# Altium schematic symbol library micro-mc68000.SCHLIB: 23 symbols
Pins are listed as number, name and electrical type; pins without a type are passive.

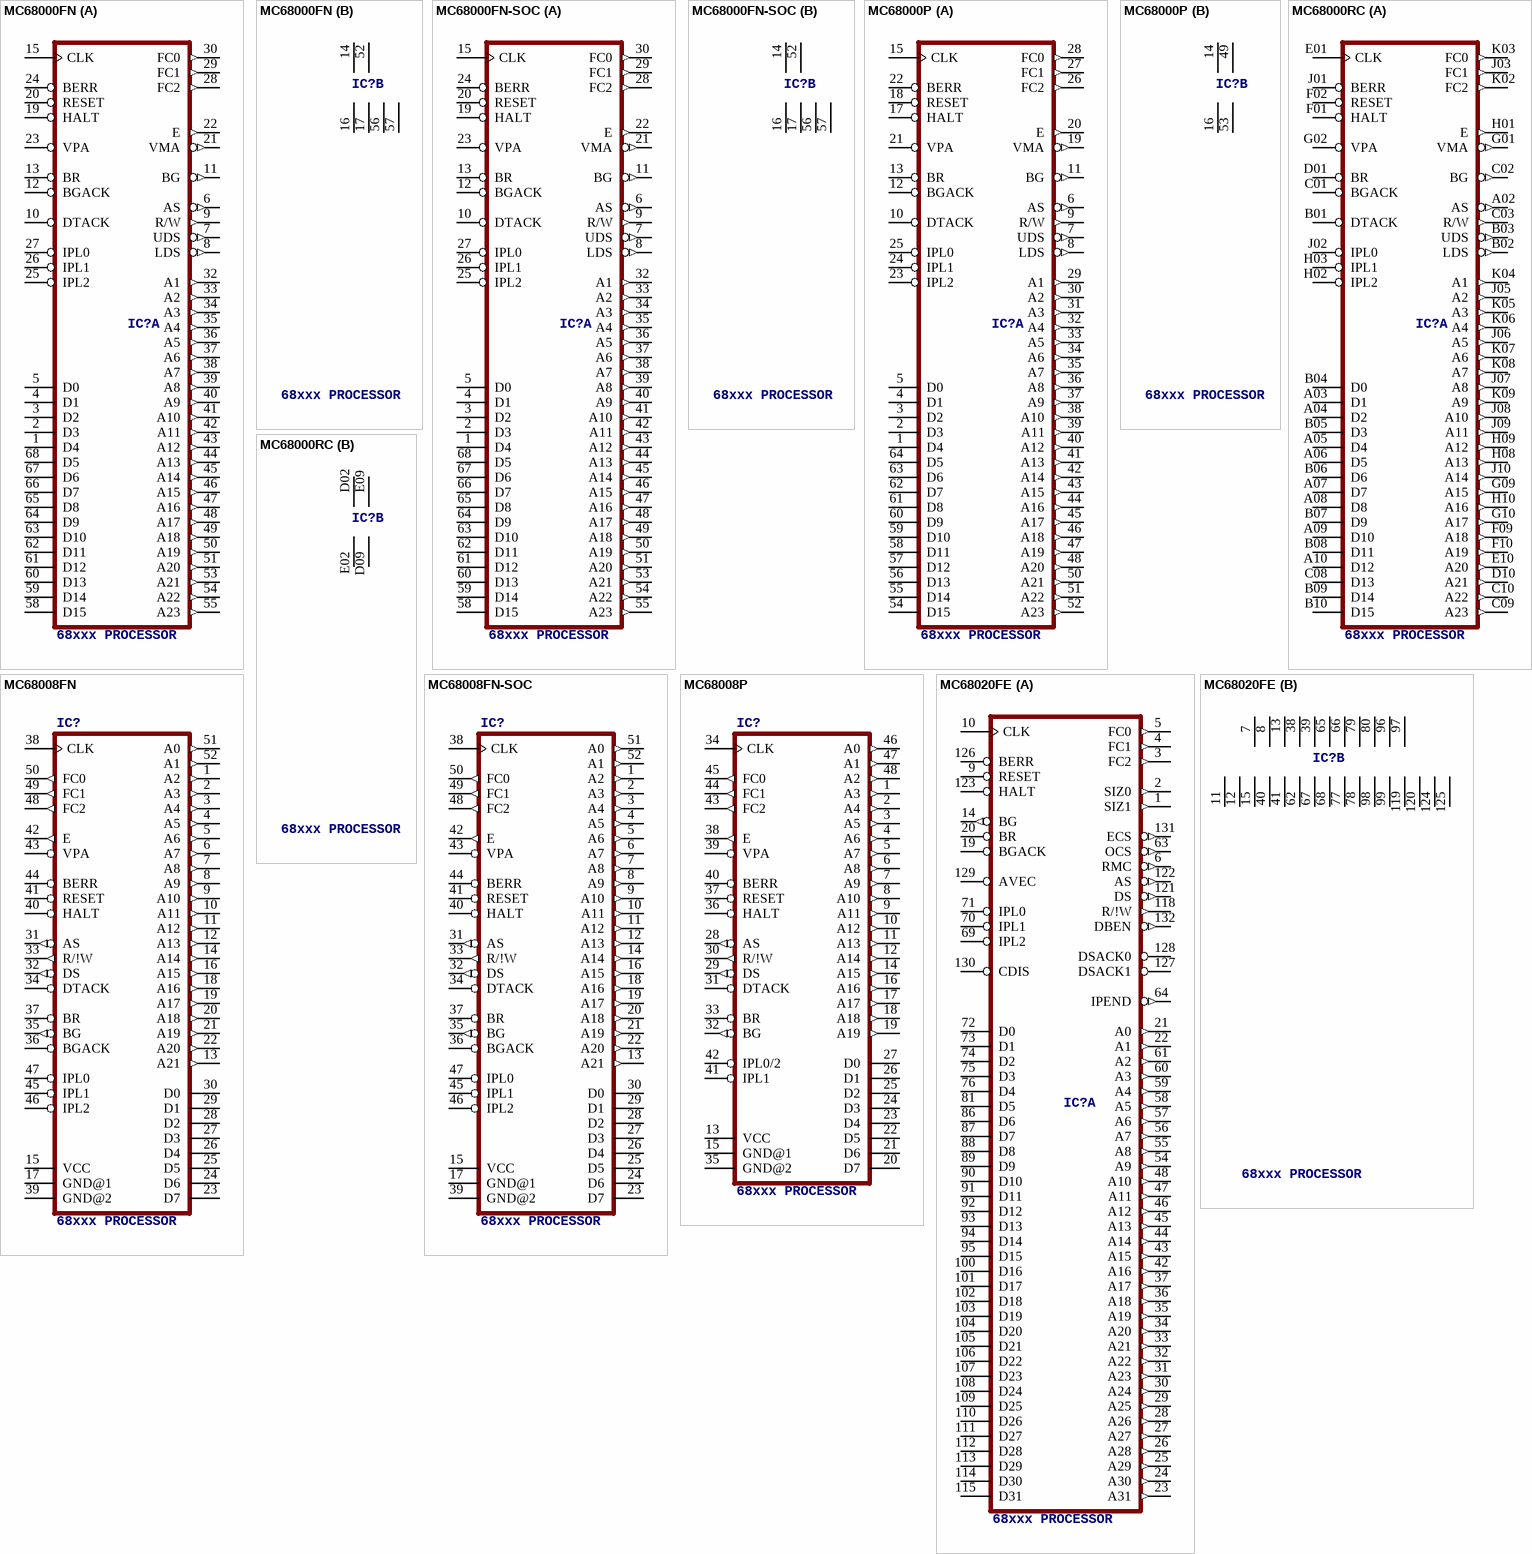
[diagram p0: symbols MC68000FN to MC68020FE]

## MC68000FN
designator IC?, comment 68xxx PROCESSOR
MPN: MC68HC000FN20; MF: MOTOROLA; OC_FARNELL: unknown; OC_NEWARK: 66F833
footprint PLCC68
part A pins: 1 D4, 2 D3, 3 D2, 4 D1, 5 D0, 6 AS (out), 7 UDS (out), 8 LDS (out), 9 R/W (out), 10 DTACK, 11 BG (out), 12 BGACK, 13 BR, 15 CLK, 19 HALT, 20 RESET, 21 VMA (out), 22 E (out), 23 VPA, 24 BERR, 25 IPL2, 26 IPL1, 27 IPL0, 28 FC2 (out), 29 FC1 (out), 30 FC0 (out), 32 A1 (out), 33 A2 (out), 34 A3 (out), 35 A4 (out), 36 A5 (out), 37 A6 (out), 38 A7 (out), 39 A8 (out), 40 A9 (out), 41 A10 (out), 42 A11 (out), 43 A12 (out), 44 A13 (out), 45 A14 (out), 46 A15 (out), 47 A16 (out), 48 A17 (out), 49 A18 (out), 50 A19 (out), 51 A20 (out), 53 A21 (out), 54 A22 (out), 55 A23 (out), 58 D15, 59 D14, 60 D13, 61 D12, 62 D11, 63 D10, 64 D9, 65 D8, 66 D7, 67 D6, 68 D5
part B pins: 14 VCC@1 (power), 16 GND@1 (power), 17 GND@2 (power), 52 VCC@2 (power), 56 GND@3 (power), 57 GND@4 (power)

## MC68000FN-SOC
designator IC?, comment 68xxx PROCESSOR
OC_FARNELL: unknown; OC_NEWARK: unknown
footprint PLCC68-S
part A pins: 1 D4, 2 D3, 3 D2, 4 D1, 5 D0, 6 AS (out), 7 UDS (out), 8 LDS (out), 9 R/W (out), 10 DTACK, 11 BG (out), 12 BGACK, 13 BR, 15 CLK, 19 HALT, 20 RESET, 21 VMA (out), 22 E (out), 23 VPA, 24 BERR, 25 IPL2, 26 IPL1, 27 IPL0, 28 FC2 (out), 29 FC1 (out), 30 FC0 (out), 32 A1 (out), 33 A2 (out), 34 A3 (out), 35 A4 (out), 36 A5 (out), 37 A6 (out), 38 A7 (out), 39 A8 (out), 40 A9 (out), 41 A10 (out), 42 A11 (out), 43 A12 (out), 44 A13 (out), 45 A14 (out), 46 A15 (out), 47 A16 (out), 48 A17 (out), 49 A18 (out), 50 A19 (out), 51 A20 (out), 53 A21 (out), 54 A22 (out), 55 A23 (out), 58 D15, 59 D14, 60 D13, 61 D12, 62 D11, 63 D10, 64 D9, 65 D8, 66 D7, 67 D6, 68 D5
part B pins: 14 VCC@1 (power), 16 GND@1 (power), 17 GND@2 (power), 52 VCC@2 (power), 56 GND@3 (power), 57 GND@4 (power)

## MC68000P
designator IC?, comment 68xxx PROCESSOR
OC_FARNELL: unknown; OC_NEWARK: unknown
footprint DIL64
part A pins: 1 D4, 2 D3, 3 D2, 4 D1, 5 D0, 6 AS (out), 7 UDS (out), 8 LDS (out), 9 R/W (out), 10 DTACK, 11 BG (out), 12 BGACK, 13 BR, 15 CLK, 17 HALT, 18 RESET, 19 VMA (out), 20 E (out), 21 VPA, 22 BERR, 23 IPL2, 24 IPL1, 25 IPL0, 26 FC2 (out), 27 FC1 (out), 28 FC0 (out), 29 A1 (out), 30 A2 (out), 31 A3 (out), 32 A4 (out), 33 A5 (out), 34 A6 (out), 35 A7 (out), 36 A8 (out), 37 A9 (out), 38 A10 (out), 39 A11 (out), 40 A12 (out), 41 A13 (out), 42 A14 (out), 43 A15 (out), 44 A16 (out), 45 A17 (out), 46 A18 (out), 47 A19 (out), 48 A20 (out), 50 A21 (out), 51 A22 (out), 52 A23 (out), 54 D15, 55 D14, 56 D13, 57 D12, 58 D11, 59 D10, 60 D9, 61 D8, 62 D7, 63 D6, 64 D5
part B pins: 14 VCC@1 (power), 16 GND@1 (power), 49 VCC@2 (power), 53 GND@2 (power)

## MC68000RC
designator IC?, comment 68xxx PROCESSOR
MPN: MC68HC000RC16; MF: MOTOROLA; OC_FARNELL: unknown; OC_NEWARK: 40K0242
footprint MPGA68
part A pins: A02 AS (out), A03 D1, A04 D2, A05 D4, A06 D5, A07 D7, A08 D8, A09 D10, A10 D12, B01 DTACK, B02 LDS (out), B03 UDS (out), B04 D0, B05 D3, B06 D6, B07 D9, B08 D11, B09 D14, B10 D15, C01 BGACK, C02 BG (out), C03 R/W (out), C08 D13, C09 A23 (out), C10 A22 (out), D01 BR, D10 A21 (out), E01 CLK, E10 A20 (out), F01 HALT, F02 RESET, F09 A18 (out), F10 A19 (out), G01 VMA (out), G02 VPA, G09 A15 (out), G10 A17 (out), H01 E (out), H02 IPL2, H03 IPL1, H08 A13 (out), H09 A12 (out), H10 A16 (out), J01 BERR, J02 IPL0, J03 FC1 (out), J05 A2 (out), J06 A5 (out), J07 A8 (out), J08 A10 (out), J09 A11 (out), J10 A14 (out), K02 FC2 (out), K03 FC0 (out), K04 A1 (out), K05 A3 (out), K06 A4 (out), K07 A6 (out), K08 A7 (out), K09 A9 (out)
part B pins: D02 VCC@1 (power), D09 GND@2 (power), E02 GND@1 (power), E09 VCC@2 (power)

## MC68008FN
designator IC?, comment 68xxx PROCESSOR
OC_FARNELL: unknown; OC_NEWARK: unknown
footprint PLCC52
pins: 1 A2 (out), 2 A3 (out), 3 A4 (out), 4 A5 (out), 5 A6 (out), 6 A7 (out), 7 A8 (out), 8 A9 (out), 9 A10 (out), 10 A11 (out), 11 A12 (out), 12 A13 (out), 13 A21 (out), 14 A14 (out), 15 VCC (power), 16 A15 (out), 17 GND@1 (power), 18 A16 (out), 19 A17 (out), 20 A18 (out), 21 A19 (out), 22 A20 (out), 23 D7, 24 D6, 25 D5, 26 D4, 27 D3, 28 D2, 29 D1, 30 D0, 31 AS (out), 32 DS (out), 33 R/!W (out), 34 DTACK, 35 BG (out), 36 BGACK, 37 BR, 38 CLK, 39 GND@2 (power), 40 HALT, 41 RESET, 42 E (out), 43 VPA, 44 BERR, 45 IPL1, 46 IPL2, 47 IPL0, 48 FC2 (out), 49 FC1 (out), 50 FC0 (out), 51 A0 (out), 52 A1 (out)

## MC68008FN-SOC
designator IC?, comment 68xxx PROCESSOR
OC_FARNELL: unknown; OC_NEWARK: unknown
footprint PLCC52-S
pins: 1 A2 (out), 2 A3 (out), 3 A4 (out), 4 A5 (out), 5 A6 (out), 6 A7 (out), 7 A8 (out), 8 A9 (out), 9 A10 (out), 10 A11 (out), 11 A12 (out), 12 A13 (out), 13 A21 (out), 14 A14 (out), 15 VCC (power), 16 A15 (out), 17 GND@1 (power), 18 A16 (out), 19 A17 (out), 20 A18 (out), 21 A19 (out), 22 A20 (out), 23 D7, 24 D6, 25 D5, 26 D4, 27 D3, 28 D2, 29 D1, 30 D0, 31 AS (out), 32 DS (out), 33 R/!W (out), 34 DTACK, 35 BG (out), 36 BGACK, 37 BR, 38 CLK, 39 GND@2 (power), 40 HALT, 41 RESET, 42 E (out), 43 VPA, 44 BERR, 45 IPL1, 46 IPL2, 47 IPL0, 48 FC2 (out), 49 FC1 (out), 50 FC0 (out), 51 A0 (out), 52 A1 (out)

## MC68008P
designator IC?, comment 68xxx PROCESSOR
OC_FARNELL: unknown; OC_NEWARK: unknown
footprint DIL48
pins: 1 A3 (out), 2 A4 (out), 3 A5 (out), 4 A6 (out), 5 A7 (out), 6 A8 (out), 7 A9 (out), 8 A10 (out), 9 A11 (out), 10 A12 (out), 11 A13 (out), 12 A14 (out), 13 VCC (power), 14 A15 (out), 15 GND@1 (power), 16 A16 (out), 17 A17 (out), 18 A18 (out), 19 A19 (out), 20 D7, 21 D6, 22 D5, 23 D4, 24 D3, 25 D2, 26 D1, 27 D0, 28 AS (out), 29 DS (out), 30 R/!W (out), 31 DTACK, 32 BG (out), 33 BR, 34 CLK, 35 GND@2 (power), 36 HALT, 37 RESET, 38 E (out), 39 VPA, 40 BERR, 41 IPL1, 42 IPL0/2, 43 FC2 (out), 44 FC1 (out), 45 FC0 (out), 46 A0 (out), 47 A1 (out), 48 A2 (out)

## MC68020FE
designator IC?, comment 68xxx PROCESSOR
MPN: MC68020FE33E; MF: MOTOROLA; OC_FARNELL: 1579774; OC_NEWARK: 75C2448
footprint MQFP132
part A pins: 1 SIZ1 (out), 2 SIZ0 (out), 3 FC2 (out), 4 FC1 (out), 5 FC0 (out), 6 RMC (out), 9 RESET, 10 CLK, 14 BG (out), 19 BGACK, 20 BR, 21 A0 (out), 22 A1 (out), 23 A31 (out), 24 A30 (out), 25 A29 (out), 26 A28 (out), 27 A27 (out), 28 A26 (out), 29 A25 (out), 30 A24 (out), 31 A23 (out), 32 A22 (out), 33 A21 (out), 34 A20 (out), 35 A19 (out), 36 A18 (out), 37 A17 (out), 42 A16 (out), 43 A15 (out), 44 A14 (out), 45 A13 (out), 46 A12 (out), 47 A11 (out), 48 A10 (out), 54 A9 (out), 55 A8 (out), 56 A7 (out), 57 A6 (out), 58 A5 (out), 59 A4 (out), 60 A3 (out), 61 A2 (out), 63 OCS (out), 64 IPEND (out), 69 IPL2, 70 IPL1, 71 IPL0, 72 D0, 73 D1, 74 D2, 75 D3, 76 D4, 81 D5, 86 D6, 87 D7, 88 D8, 89 D9, 90 D10, 91 D11, 92 D12, 93 D13, 94 D14, 95 D15, 100 D16, 101 D17, 102 D18, 103 D19, 104 D20, 105 D21, 106 D22, 107 D23, 108 D24, 109 D25, 110 D26, 111 D27, 112 D28, 113 D29, 114 D30, 115 D31, 118 R/!W (out), 121 DS (out), 122 AS (out), 123 HALT, 126 BERR, 127 DSACK1, 128 DSACK0, 129 AVEC, 130 CDIS, 131 ECS (out), 132 DBEN (out)
part B pins: 7 VDD@1 (power), 8 VDD@2 (power), 11 GND@1 (power), 12 GND@2 (power), 13 VDD@3 (power), 15 GND@3 (power), 38 VDD@4 (power), 39 VDD@5 (power), 40 GND@4 (power), 41 GND@5 (power), 62 GND@6 (power), 65 VDD@6 (power), 66 VDD@7 (power), 67 GND@7 (power), 68 GND@8 (power), 77 GND@9 (power), 78 GND@10 (power), 79 VDD@8 (power), 80 VDD@9 (power), 96 VDD@10 (power), 97 VDD@11 (power), 98 GND@11 (power), 99 GND@12 (power), 119 GND@13 (power), 120 GND@14 (power), 124 GND@15 (power), 125 GND@16 (power)

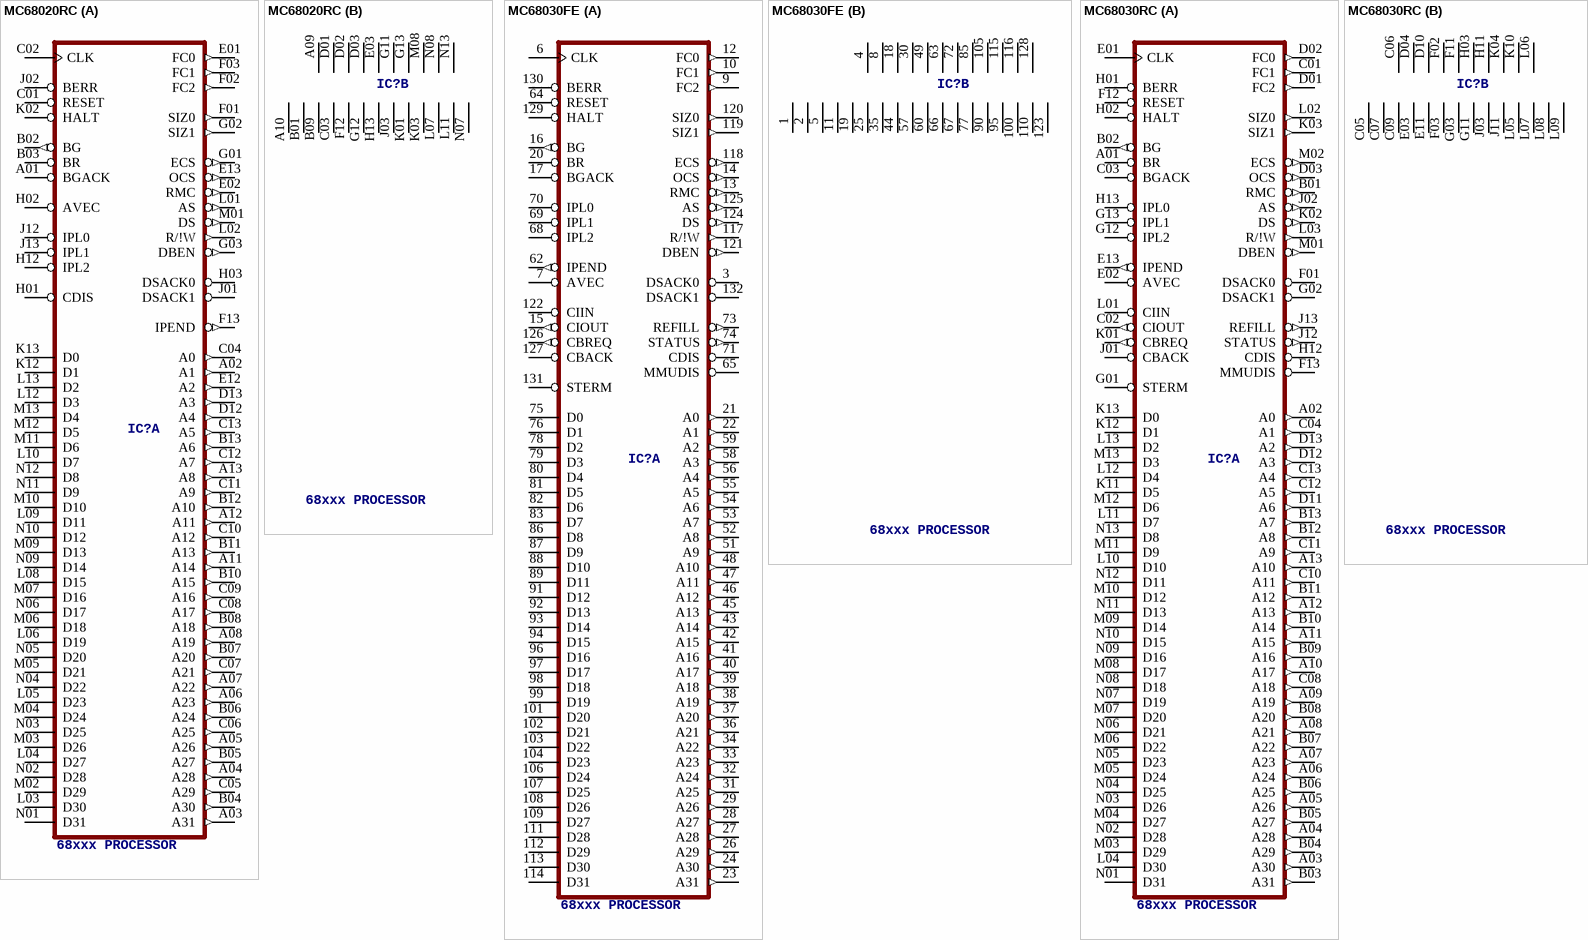
[diagram p1: symbols MC68020RC to MC68030RC]

## MC68020RC
designator IC?, comment 68xxx PROCESSOR
MPN: MC68020RC33E; MF: MOTOROLA; OC_FARNELL: 1579779; OC_NEWARK: 66F7091
footprint MPGA114
part A pins: A01 BGACK, A02 A1 (out), A03 A31 (out), A04 A28 (out), A05 A26 (out), A06 A23 (out), A07 A22 (out), A08 A19 (out), A11 A14 (out), A12 A11 (out), A13 A8 (out), B02 BG (out), B03 BR, B04 A30 (out), B05 A27 (out), B06 A24 (out), B07 A20 (out), B08 A18 (out), B10 A15 (out), B11 A13 (out), B12 A10 (out), B13 A6 (out), C01 RESET, C02 CLK, C04 A0 (out), C05 A29 (out), C06 A25 (out), C07 A21 (out), C08 A17 (out), C09 A16 (out), C10 A12 (out), C11 A9 (out), C12 A7 (out), C13 A5 (out), D12 A4 (out), D13 A3 (out), E01 FC0 (out), E02 RMC (out), E12 A2 (out), E13 OCS (out), F01 SIZ0 (out), F02 FC2 (out), F03 FC1 (out), F13 IPEND (out), G01 ECS (out), G02 SIZ1 (out), G03 DBEN (out), H01 CDIS, H02 AVEC, H03 DSACK0, H12 IPL2, J01 DSACK1, J02 BERR, J12 IPL0, J13 IPL1, K02 HALT, K12 D1, K13 D0, L01 AS (out), L02 R/!W (out), L03 D30, L04 D27, L05 D23, L06 D19, L08 D15, L09 D11, L10 D7, L12 D3, L13 D2, M01 DS (out), M02 D29, M03 D26, M04 D24, M05 D21, M06 D18, M07 D16, M09 D13, M10 D10, M11 D6, M12 D5, M13 D4, N01 D31, N02 D28, N03 D25, N04 D22, N05 D20, N06 D17, N09 D14, N10 D12, N11 D9, N12 D8
part B pins: A09 VCC@1 (power), A10 GND@1 (power), B01 GND@2 (power), B09 GND@3 (power), C03 GND@4 (power), D01 VCC@2 (power), D02 VCC@3 (power), D03 VCC@4 (power), E03 VCC@5 (power), F12 GND@5 (power), G11 VCC@6 (power), G12 GND@6 (power), G13 VCC@7 (power), H13 GND@7 (power), J03 GND@8 (power), K01 GND@9 (power), K03 GND@10 (power), L07 GND@11 (power), L11 GND@12 (power), M08 VCC@8 (power), N07 GND@13 (power), N08 VCC@9 (power), N13 VCC@10 (power)

## MC68030FE
designator IC?, comment 68xxx PROCESSOR
MPN: MC68030FE33C; MF: MOTOROLA; OC_FARNELL: unknown; OC_NEWARK: 52F3266
footprint MQFP132
part A pins: 3 DSACK0, 6 CLK, 7 AVEC, 9 FC2 (out), 10 FC1 (out), 12 FC0 (out), 13 RMC (out), 14 OCS (out), 15 CIOUT (out), 16 BG (out), 17 BGACK, 20 BR, 21 A0 (out), 22 A1 (out), 23 A31 (out), 24 A30 (out), 26 A29 (out), 27 A28 (out), 28 A27 (out), 29 A26 (out), 31 A25 (out), 32 A24 (out), 33 A23 (out), 34 A22 (out), 36 A21 (out), 37 A20 (out), 38 A19 (out), 39 A18 (out), 40 A17 (out), 41 A16 (out), 42 A15 (out), 43 A14 (out), 45 A13 (out), 46 A12 (out), 47 A11 (out), 48 A10 (out), 51 A9 (out), 52 A8 (out), 53 A7 (out), 54 A6 (out), 55 A5 (out), 56 A4 (out), 58 A3 (out), 59 A2 (out), 62 IPEND (out), 64 RESET, 65 MMUDIS, 68 IPL2, 69 IPL1, 70 IPL0, 71 CDIS, 73 REFILL (out), 74 STATUS (out), 75 D0, 76 D1, 78 D2, 79 D3, 80 D4, 81 D5, 82 D6, 83 D7, 86 D8, 87 D9, 88 D10, 89 D11, 91 D12, 92 D13, 93 D14, 94 D15, 96 D16, 97 D17, 98 D18, 99 D19, 101 D20, 102 D21, 103 D22, 104 D23, 106 D24, 107 D25, 108 D26, 109 D27, 111 D28, 112 D29, 113 D30, 114 D31, 117 R/!W (out), 118 ECS (out), 119 SIZ1 (out), 120 SIZ0 (out), 121 DBEN (out), 122 CIIN, 124 DS (out), 125 AS (out), 126 CBREQ (out), 127 CBACK, 129 HALT, 130 BERR, 131 STERM, 132 DSACK1
part B pins: 1 GND@1 (power), 2 GND@2 (power), 4 VCC@1 (power), 5 GND@3 (power), 8 VCC@2 (power), 11 GND@4 (power), 18 VCC@3 (power), 19 GND@5 (power), 25 GND@6 (power), 30 VCC@4 (power), 35 GND@7 (power), 44 GND@8 (power), 49 VCC@5 (power), 57 GND@9 (power), 60 GND@10 (power), 63 VCC@6 (power), 66 GND@11 (power), 67 GND@12 (power), 72 VCC@7 (power), 77 GND@13 (power), 85 VCC@8 (power), 90 GND@14 (power), 95 GND@15 (power), 100 GND@16 (power), 105 VCC@9 (power), 110 GND@17 (power), 115 VCC@10 (power), 116 VCC@11 (power), 123 GND@18 (power), 128 VCC@12 (power)

## MC68030RC
designator IC?, comment 68xxx PROCESSOR
MPN: MC68030RC50C; MF: MOTOROLA; OC_FARNELL: unknown; OC_NEWARK: 52F3269
footprint MPGA128
part A pins: A01 BR, A02 A0 (out), A03 A30 (out), A04 A28 (out), A05 A26 (out), A06 A24 (out), A07 A23 (out), A08 A21 (out), A09 A19 (out), A10 A17 (out), A11 A15 (out), A12 A13 (out), A13 A10 (out), B01 RMC (out), B02 BG (out), B03 A31 (out), B04 A29 (out), B05 A27 (out), B06 A25 (out), B07 A22 (out), B08 A20 (out), B09 A16 (out), B10 A14 (out), B11 A12 (out), B12 A8 (out), B13 A7 (out), C01 FC1 (out), C02 CIOUT (out), C03 BGACK, C04 A1 (out), C08 A18 (out), C10 A11 (out), C11 A9 (out), C12 A5 (out), C13 A4 (out), D01 FC2 (out), D02 FC0 (out), D03 OCS (out), D11 A6 (out), D12 A3 (out), D13 A2 (out), E01 CLK, E02 AVEC, E13 IPEND (out), F01 DSACK0, F12 RESET, F13 MMUDIS, G01 STERM, G02 DSACK1, G12 IPL2, G13 IPL1, H01 BERR, H02 HALT, H12 CDIS, H13 IPL0, J01 CBACK, J02 AS (out), J12 STATUS (out), J13 REFILL (out), K01 CBREQ (out), K02 DS (out), K03 SIZ1 (out), K11 D5, K12 D1, K13 D0, L01 CIIN, L02 SIZ0 (out), L03 R/!W (out), L04 D30, L10 D10, L11 D7, L12 D4, L13 D2, M01 DBEN (out), M02 ECS (out), M03 D29, M04 D27, M05 D24, M06 D22, M07 D20, M08 D17, M09 D14, M10 D12, M11 D9, M12 D6, M13 D3, N01 D31, N02 D28, N03 D26, N04 D25, N05 D23, N06 D21, N07 D19, N08 D18, N09 D16, N10 D15, N11 D13, N12 D11, N13 D8
part B pins: C05 GND@1 (power), C06 VCC@1 (power), C07 GND@2 (power), C09 GND@3 (power), D04 VCC@2 (power), D10 VCC@3 (power), E03 GND@4 (power), E11 GND@5 (power), F02 VCC@4 (power), F03 GND@6 (power), F11 VCC@5 (power), G03 GND@7 (power), G11 GND@8 (power), H03 VCC@6 (power), H11 VCC@7 (power), J03 GND@9 (power), J11 GND@10 (power), K04 VCC@8 (power), K10 VCC@9 (power), L05 GND@11 (power), L06 VCC@10 (power), L07 GND@12 (power), L08 GND@13 (power), L09 GND@14 (power)

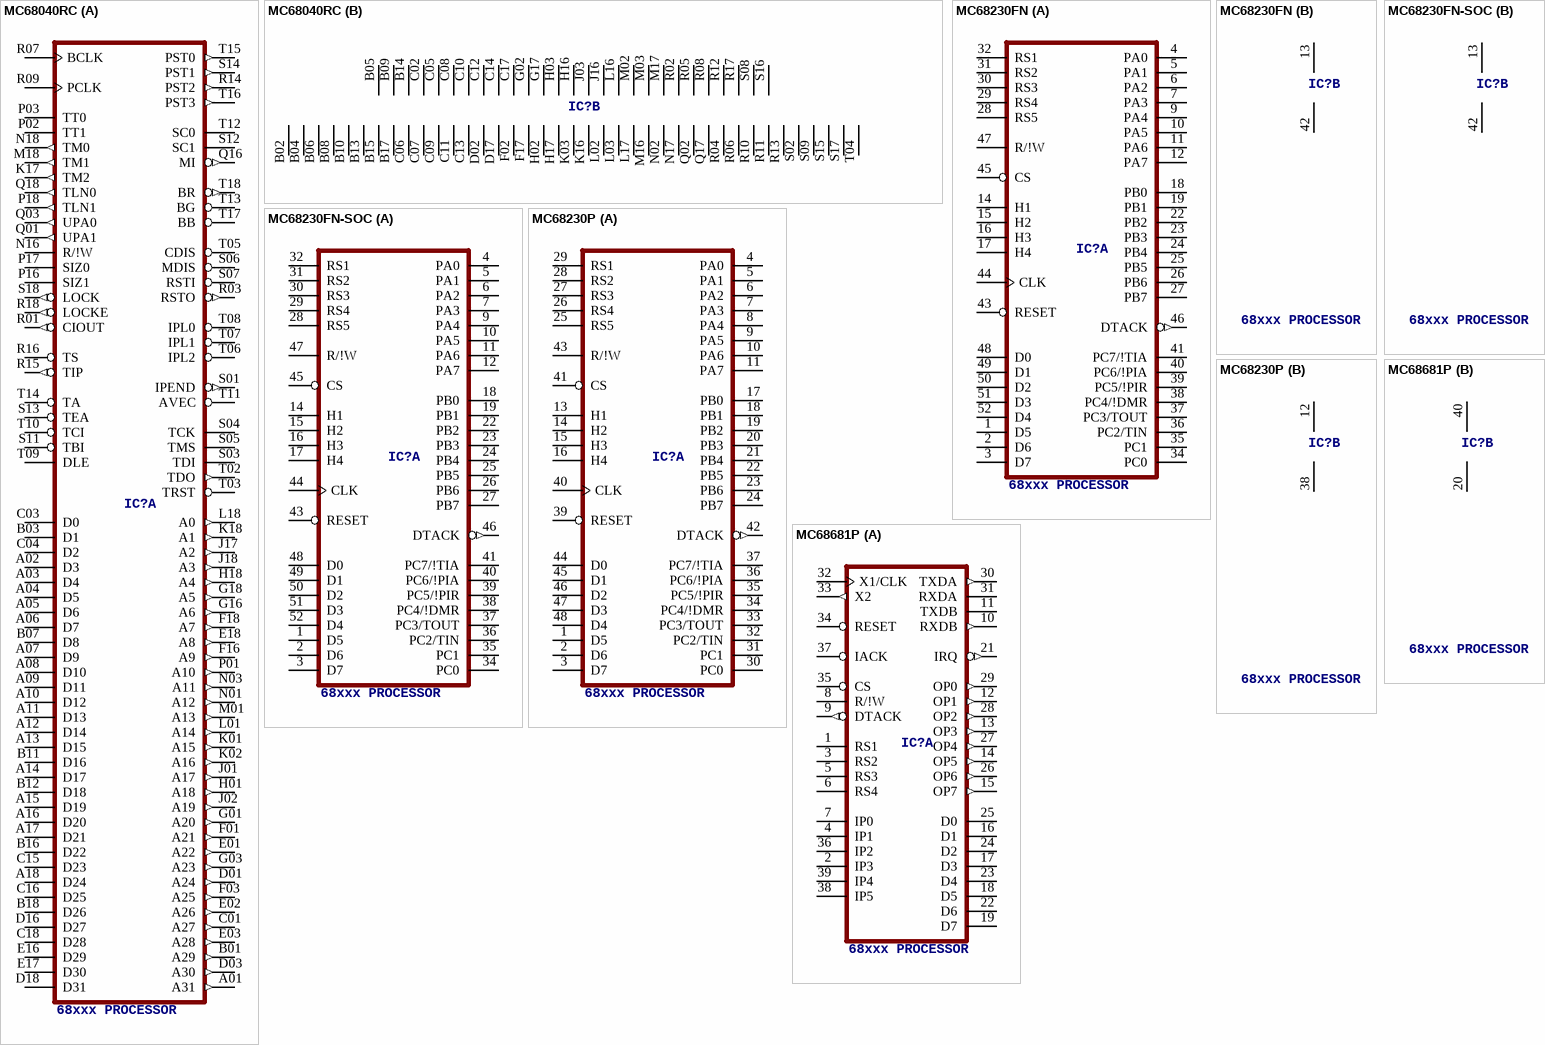
[diagram p2: symbols MC68040RC to MC68681P]

## MC68040RC
designator IC?, comment 68xxx PROCESSOR
MPN: MC68040RC40A; MF: MOTOROLA; OC_FARNELL: 1579784; OC_NEWARK: 24C6756
footprint MPGA179
part A pins: A01 A31 (out), A02 D3, A03 D4, A04 D5, A05 D6, A06 D7, A07 D9, A08 D10, A09 D11, A10 D12, A11 D13, A12 D14, A13 D15, A14 D17, A15 D19, A16 D20, A17 D21, A18 D24, B01 A29 (out), B03 D1, B07 D8, B11 D16, B12 D18, B16 D22, B18 D26, C01 A27 (out), C03 D0, C04 D2, C15 D23, C16 D25, C18 D28, D01 A24 (out), D03 A30 (out), D16 D27, D18 D31, E01 A22 (out), E02 A26 (out), E03 A28 (out), E16 D29, E17 D30, E18 A8 (out), F01 A21 (out), F03 A25 (out), F16 A9 (out), F18 A7 (out), G01 A20 (out), G03 A23 (out), G16 A6 (out), G18 A5 (out), H01 A18 (out), H18 A4 (out), J01 A17 (out), J02 A19 (out), J17 A2 (out), J18 A3 (out), K01 A15 (out), K02 A16 (out), K17 TM2 (out), K18 A1 (out), L01 A14 (out), L18 A0 (out), M01 A13 (out), M18 TM1 (out), N01 A12 (out), N03 A11 (out), N16 R/!W, N18 TM0 (out), P01 A10 (out), P02 TT1, P03 TT0, P16 SIZ1, P17 SIZ0, P18 TLN1 (out), Q01 UPA1 (out), Q03 UPA0 (out), Q16 MI (out), Q18 TLN0 (out), R01 CIOUT (out), R03 RSTO (out), R07 BCLK, R09 PCLK, R14 PST2 (out), R15 TIP (out), R16 TS, R18 LOCKE (out), S01 IPEND (out), S03 TDI, S04 TCK, S05 TMS, S06 MDIS, S07 RSTI, S11 TBI, S12 SC1, S13 TEA, S14 PST1 (out), S18 LOCK (out), T02 TDO (out), T03 TRST, T05 CDIS, T06 IPL2, T07 IPL1, T08 IPL0, T09 DLE, T10 TCI, T11 AVEC, T12 SC0, T13 BG, T14 TA, T15 PST0 (out), T16 PST3 (out), T17 BB, T18 BR (out)
part B pins: B02 GND@1 (power), B04 GND@2 (power), B05 VCC@1 (power), B06 GND@3 (power), B08 GND@4 (power), B09 VCC@2 (power), B10 GND@5 (power), B13 GND@6 (power), B14 VCC@3 (power), B15 GND@7 (power), B17 GND@8 (power), C02 VCC@4 (power), C05 VCC@5 (power), C06 GND@9 (power), C07 GND@10 (power), C08 VCC@6 (power), C09 GND@11 (power), C10 VCC@7 (power), C11 GND@12 (power), C12 VCC@8 (power), C13 GND@13 (power), C14 VCC@9 (power), C17 VCC@10 (power), D02 GND@14 (power), D17 GND@15 (power), F02 GND@16 (power), F17 GND@17 (power), G02 VCC@11 (power), G17 VCC@12 (power), H02 GND@18 (power), H03 VCC@13 (power), H16 VCC@14 (power), H17 GND@19 (power), J03 VCC@15 (power), J16 VCC@16 (power), K03 GND@20 (power), K16 GND@21 (power), L02 GND@22 (power), L03 GND@23 (power), L16 VCC@17 (power), L17 GND@24 (power), M02 VCC@18 (power), M03 VCC@19 (power), M16 GND@25 (power), M17 VCC@20 (power), N02 GND@26 (power), N17 GND@27 (power), Q02 GND@28 (power), Q17 GND@29 (power), R02 VCC@21 (power), R04 GND@30 (power), R05 VCC@22 (power), R06 GND@31 (power), R08 VCC@23 (power), R10 GND@32 (power), R11 GND@33 (power), R12 VCC@24 (power), R13 GND@34 (power), R17 VCC@25 (power), S02 GND@35 (power), S08 VCC@26 (power), S09 GND@36 (power), S15 GND@37 (power), S16 VCC@27 (power), S17 GND@38 (power), T04 GND@39 (power)

## MC68230FN
designator IC?, comment 68xxx PROCESSOR
OC_FARNELL: unknown; OC_NEWARK: unknown
footprint PLCC52
part A pins: 1 D5, 2 D6, 3 D7, 4 PA0, 5 PA1, 6 PA2, 7 PA3, 9 PA4, 10 PA5, 11 PA6, 12 PA7, 14 H1, 15 H2, 16 H3, 17 H4, 18 PB0, 19 PB1, 22 PB2, 23 PB3, 24 PB4, 25 PB5, 26 PB6, 27 PB7, 28 RS5, 29 RS4, 30 RS3, 31 RS2, 32 RS1, 34 PC0, 35 PC1, 36 PC2/TIN, 37 PC3/TOUT, 38 PC4/!DMR, 39 PC5/!PIR, 40 PC6/!PIA, 41 PC7/!TIA, 43 RESET, 44 CLK, 45 CS, 46 DTACK (out), 47 R/!W, 48 D0, 49 D1, 50 D2, 51 D3, 52 D4
part B pins: 13 VCC (power), 42 GND (power)

## MC68230FN-SOC
designator IC?, comment 68xxx PROCESSOR
OC_FARNELL: unknown; OC_NEWARK: unknown
footprint PLCC52-S
part A pins: 1 D5, 2 D6, 3 D7, 4 PA0, 5 PA1, 6 PA2, 7 PA3, 9 PA4, 10 PA5, 11 PA6, 12 PA7, 14 H1, 15 H2, 16 H3, 17 H4, 18 PB0, 19 PB1, 22 PB2, 23 PB3, 24 PB4, 25 PB5, 26 PB6, 27 PB7, 28 RS5, 29 RS4, 30 RS3, 31 RS2, 32 RS1, 34 PC0, 35 PC1, 36 PC2/TIN, 37 PC3/TOUT, 38 PC4/!DMR, 39 PC5/!PIR, 40 PC6/!PIA, 41 PC7/!TIA, 43 RESET, 44 CLK, 45 CS, 46 DTACK (out), 47 R/!W, 48 D0, 49 D1, 50 D2, 51 D3, 52 D4
part B pins: 13 VCC (power), 42 GND (power)

## MC68230P
designator IC?, comment 68xxx PROCESSOR
OC_FARNELL: unknown; OC_NEWARK: unknown
footprint DIL48
part A pins: 1 D5, 2 D6, 3 D7, 4 PA0, 5 PA1, 6 PA2, 7 PA3, 8 PA4, 9 PA5, 10 PA6, 11 PA7, 13 H1, 14 H2, 15 H3, 16 H4, 17 PB0, 18 PB1, 19 PB2, 20 PB3, 21 PB4, 22 PB5, 23 PB6, 24 PB7, 25 RS5, 26 RS4, 27 RS3, 28 RS2, 29 RS1, 30 PC0, 31 PC1, 32 PC2/TIN, 33 PC3/TOUT, 34 PC4/!DMR, 35 PC5/!PIR, 36 PC6/!PIA, 37 PC7/!TIA, 39 RESET, 40 CLK, 41 CS, 42 DTACK (out), 43 R/!W, 44 D0, 45 D1, 46 D2, 47 D3, 48 D4
part B pins: 12 VCC (power), 38 GND (power)

## MC68681P
designator IC?, comment 68xxx PROCESSOR
OC_FARNELL: unknown; OC_NEWARK: unknown
footprint DIL40
part A pins: 1 RS1, 2 IP3, 3 RS2, 4 IP1, 5 RS3, 6 RS4, 7 IP0, 8 R/!W, 9 DTACK (out), 10 RXDB (out), 11 TXDB, 12 OP1 (out), 13 OP3 (out), 14 OP5 (out), 15 OP7 (out), 16 D1, 17 D3, 18 D5, 19 D7, 21 IRQ (out), 22 D6, 23 D4, 24 D2, 25 D0, 26 OP6 (out), 27 OP4 (out), 28 OP2 (out), 29 OP0 (out), 30 TXDA (out), 31 RXDA, 32 X1/CLK, 33 X2 (out), 34 RESET, 35 CS, 36 IP2, 37 IACK, 38 IP5, 39 IP4
part B pins: 20 GND (power), 40 VCC (power)

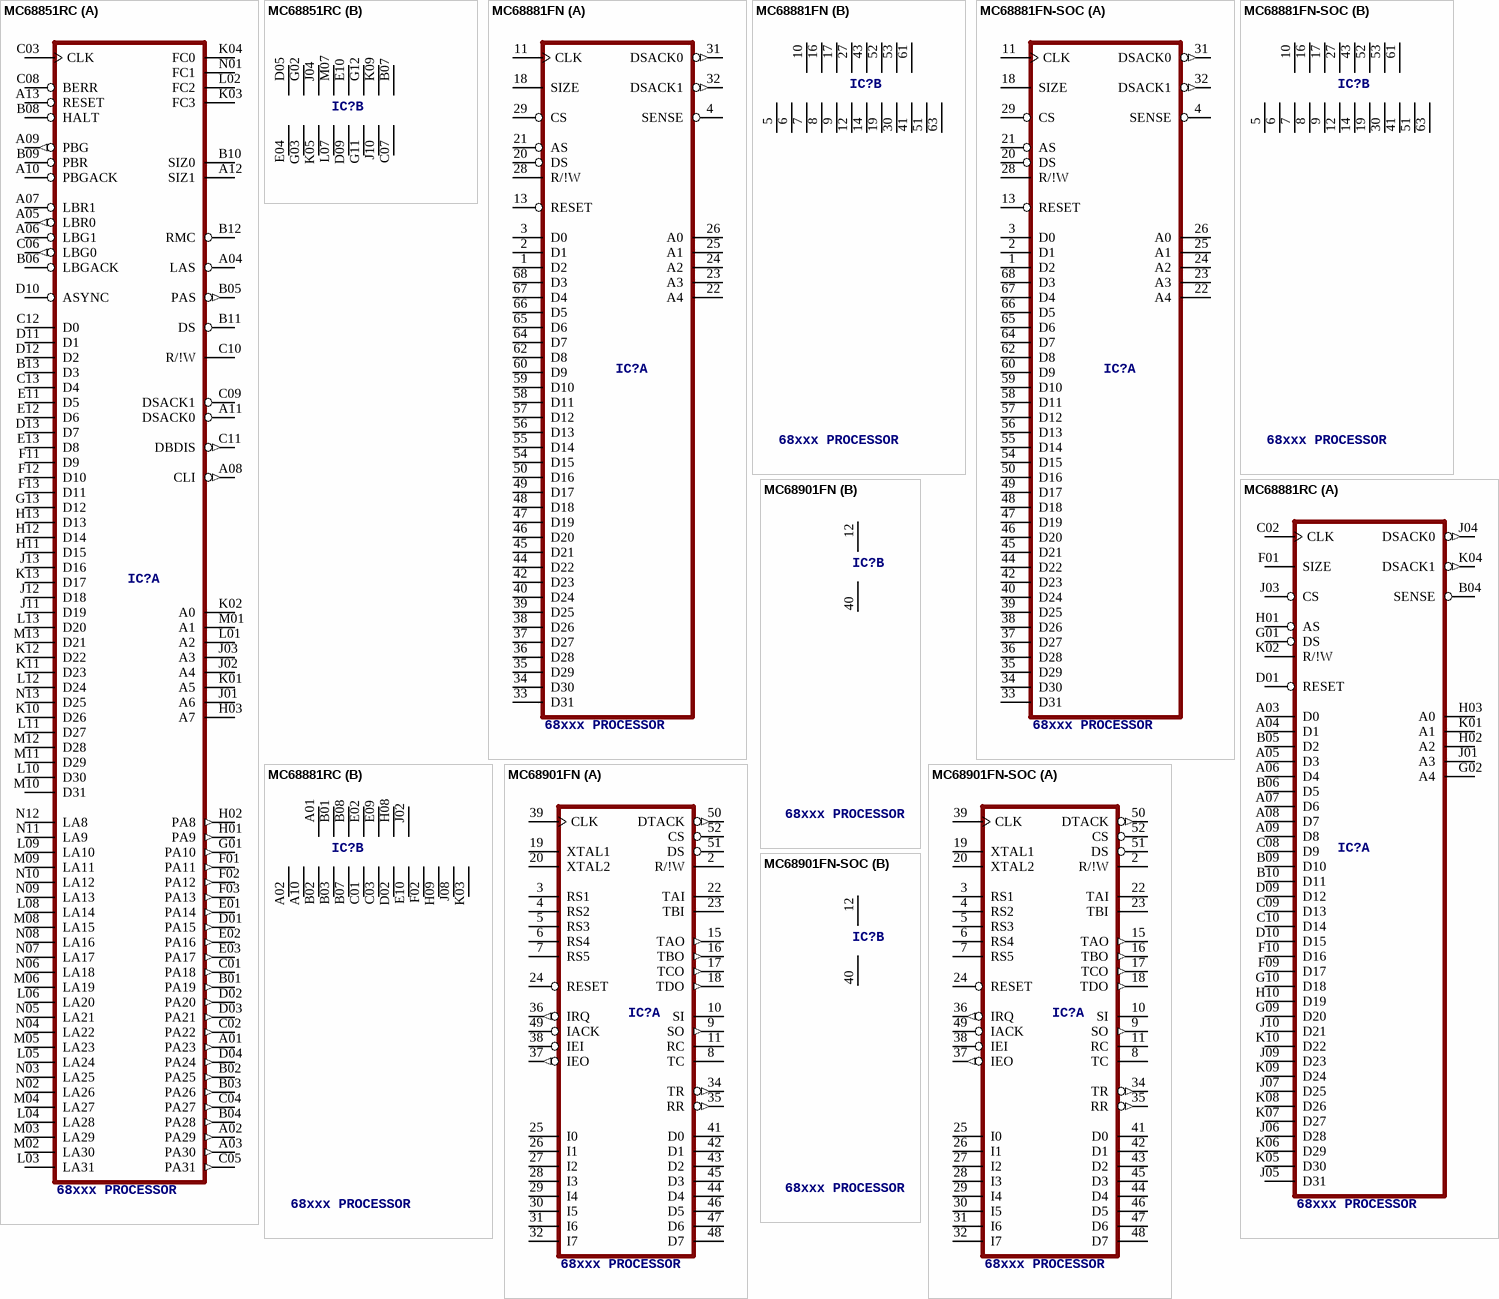
[diagram p3: symbols MC68851RC to MC68901FN-SOC]

## MC68851RC
designator IC?, comment 68xxx PROCESSOR
OC_FARNELL: unknown; OC_NEWARK: unknown
footprint MPGA132
part A pins: A01 PA23 (out), A02 PA29 (out), A03 PA30 (out), A04 LAS, A05 LBR0 (out), A06 LBG1, A07 LBR1, A08 CLI (out), A09 PBG (out), A10 PBGACK, A11 DSACK0, A12 SIZ1, A13 RESET, B01 PA19 (out), B02 PA25 (out), B03 PA26 (out), B04 PA28 (out), B05 PAS (out), B06 LBGACK, B08 HALT, B09 PBR, B10 SIZ0, B11 DS, B12 RMC, B13 D3, C01 PA18 (out), C02 PA22 (out), C03 CLK, C04 PA27 (out), C05 PA31 (out), C06 LBG0 (out), C08 BERR, C09 DSACK1, C10 R/!W, C11 DBDIS (out), C12 D0, C13 D4, D01 PA15 (out), D02 PA20 (out), D03 PA21 (out), D04 PA24 (out), D10 ASYNC, D11 D1, D12 D2, D13 D7, E01 PA14 (out), E02 PA16 (out), E03 PA17 (out), E11 D5, E12 D6, E13 D8, F01 PA11 (out), F02 PA12 (out), F03 PA13 (out), F11 D9, F12 D10, F13 D11, G01 PA10 (out), G13 D12, H01 PA9 (out), H02 PA8 (out), H03 A7, H11 D15, H12 D14, H13 D13, J01 A6, J02 A4, J03 A3, J11 D19, J12 D18, J13 D16, K01 A5, K02 A0, K03 FC3, K04 FC0, K10 D26, K11 D23, K12 D22, K13 D17, L01 A2, L02 FC2, L03 LA31, L04 LA28, L05 LA24, L06 LA20, L08 LA14, L09 LA10, L10 D30, L11 D27, L12 D24, L13 D20, M01 A1, M02 LA30, M03 LA29, M04 LA27, M05 LA23, M06 LA19, M08 LA15, M09 LA11, M10 D31, M11 D29, M12 D28, M13 D21, N01 FC1, N02 LA26, N03 LA25, N04 LA22, N05 LA21, N06 LA18, N07 LA17, N08 LA16, N09 LA13, N10 LA12, N11 LA9, N12 LA8, N13 D25
part B pins: B07 VCC@8 (power), C07 GND@8 (power), D05 VCC@1 (power), D09 GND@5 (power), E04 GND@1 (power), E10 VCC@5 (power), G02 VCC@2 (power), G03 GND@2 (power), G11 GND@6 (power), G12 VCC@6 (power), J04 VCC@3 (power), J10 GND@7 (power), K05 GND@3 (power), K09 VCC@7 (power), L07 GND@4 (power), M07 VCC@4 (power)

## MC68881FN
designator IC?, comment 68xxx PROCESSOR
OC_FARNELL: unknown; OC_NEWARK: unknown
footprint PLCC68
part A pins: 1 D2, 2 D1, 3 D0, 4 SENSE, 11 CLK, 13 RESET, 18 SIZE, 20 DS, 21 AS, 22 A4, 23 A3, 24 A2, 25 A1, 26 A0, 28 R/!W, 29 CS, 31 DSACK0 (out), 32 DSACK1 (out), 33 D31, 34 D30, 35 D29, 36 D28, 37 D27, 38 D26, 39 D25, 40 D24, 42 D23, 44 D22, 45 D21, 46 D20, 47 D19, 48 D18, 49 D17, 50 D16, 54 D15, 55 D14, 56 D13, 57 D12, 58 D11, 59 D10, 60 D9, 62 D8, 64 D7, 65 D6, 66 D5, 67 D4, 68 D3
part B pins: 5 GND@1 (power), 6 GND@2 (power), 7 GND@3 (power), 8 GND@4 (power), 9 GND@5 (power), 10 VCC@1 (power), 12 GND@6 (power), 14 GND@7 (power), 16 VCC@2 (power), 17 VCC@3 (power), 19 GND@8 (power), 27 VCC@4 (power), 30 GND@9 (power), 41 GND@10 (power), 43 VCC@5 (power), 51 GND@11 (power), 52 VCC@6 (power), 53 VCC@7 (power), 61 VCC@8 (power), 63 GND@12 (power)

## MC68881FN-SOC
designator IC?, comment 68xxx PROCESSOR
OC_FARNELL: unknown; OC_NEWARK: unknown
footprint PLCC68-S
part A pins: 1 D2, 2 D1, 3 D0, 4 SENSE, 11 CLK, 13 RESET, 18 SIZE, 20 DS, 21 AS, 22 A4, 23 A3, 24 A2, 25 A1, 26 A0, 28 R/!W, 29 CS, 31 DSACK0 (out), 32 DSACK1 (out), 33 D31, 34 D30, 35 D29, 36 D28, 37 D27, 38 D26, 39 D25, 40 D24, 42 D23, 44 D22, 45 D21, 46 D20, 47 D19, 48 D18, 49 D17, 50 D16, 54 D15, 55 D14, 56 D13, 57 D12, 58 D11, 59 D10, 60 D9, 62 D8, 64 D7, 65 D6, 66 D5, 67 D4, 68 D3
part B pins: 5 GND@1 (power), 6 GND@2 (power), 7 GND@3 (power), 8 GND@4 (power), 9 GND@5 (power), 10 VCC@1 (power), 12 GND@6 (power), 14 GND@7 (power), 16 VCC@2 (power), 17 VCC@3 (power), 19 GND@8 (power), 27 VCC@4 (power), 30 GND@9 (power), 41 GND@10 (power), 43 VCC@5 (power), 51 GND@11 (power), 52 VCC@6 (power), 53 VCC@7 (power), 61 VCC@8 (power), 63 GND@12 (power)

## MC68881RC
designator IC?, comment 68xxx PROCESSOR
OC_FARNELL: unknown; OC_NEWARK: unknown
footprint MPGA68
part A pins: A03 D0, A04 D1, A05 D3, A06 D4, A07 D6, A08 D7, A09 D8, B04 SENSE, B05 D2, B06 D5, B09 D10, B10 D11, C02 CLK, C08 D9, C09 D13, C10 D14, D01 RESET, D09 D12, D10 D15, F01 SIZE, F09 D17, F10 D16, G01 DS, G02 A4, G09 D20, G10 D18, H01 AS, H02 A2, H03 A0, H10 D19, J01 A3, J03 CS, J04 DSACK0 (out), J05 D31, J06 D28, J07 D25, J09 D23, J10 D21, K01 A1, K02 R/!W, K04 DSACK1 (out), K05 D30, K06 D29, K07 D27, K08 D26, K09 D24, K10 D22
part B pins: A01 VCC@1 (power), A02 GND@1 (power), A10 GND@2 (power), B01 VCC@2 (power), B02 GND@3 (power), B03 GND@4 (power), B07 GND@5 (power), B08 VCC@3 (power), C01 GND@6 (power), C03 GND@7 (power), D02 GND@8 (power), E02 VCC@4 (power), E09 VCC@5 (power), E10 GND@9 (power), F02 GND@10 (power), H08 VCC@6 (power), H09 GND@11 (power), J02 VCC@7 (power), J08 GND@12 (power), K03 GND@13 (power)

## MC68901FN
designator IC?, comment 68xxx PROCESSOR
OC_FARNELL: unknown; OC_NEWARK: unknown
footprint PLCC52
part A pins: 2 R/!W, 3 RS1, 4 RS2, 5 RS3, 6 RS4, 7 RS5, 8 TC, 9 SO (out), 10 SI, 11 RC, 15 TAO (out), 16 TBO (out), 17 TCO (out), 18 TDO (out), 19 XTAL1, 20 XTAL2, 22 TAI, 23 TBI, 24 RESET, 25 I0, 26 I1, 27 I2, 28 I3, 29 I4, 30 I5, 31 I6, 32 I7, 34 TR (out), 35 RR (out), 36 IRQ (out), 37 IEO (out), 38 IEI, 39 CLK, 41 D0, 42 D1, 43 D2, 44 D4, 45 D3, 46 D5, 47 D6, 48 D7, 49 IACK, 50 DTACK (out), 51 DS, 52 CS
part B pins: 12 VCC (power), 40 GND (power)

## MC68901FN-SOC
designator IC?, comment 68xxx PROCESSOR
OC_FARNELL: unknown; OC_NEWARK: unknown
footprint PLCC52-S
part A pins: 2 R/!W, 3 RS1, 4 RS2, 5 RS3, 6 RS4, 7 RS5, 8 TC, 9 SO (out), 10 SI, 11 RC, 15 TAO (out), 16 TBO (out), 17 TCO (out), 18 TDO (out), 19 XTAL1, 20 XTAL2, 22 TAI, 23 TBI, 24 RESET, 25 I0, 26 I1, 27 I2, 28 I3, 29 I4, 30 I5, 31 I6, 32 I7, 34 TR (out), 35 RR (out), 36 IRQ (out), 37 IEO (out), 38 IEI, 39 CLK, 41 D0, 42 D1, 43 D2, 44 D4, 45 D3, 46 D5, 47 D6, 48 D7, 49 IACK, 50 DTACK (out), 51 DS, 52 CS
part B pins: 12 VCC (power), 40 GND (power)

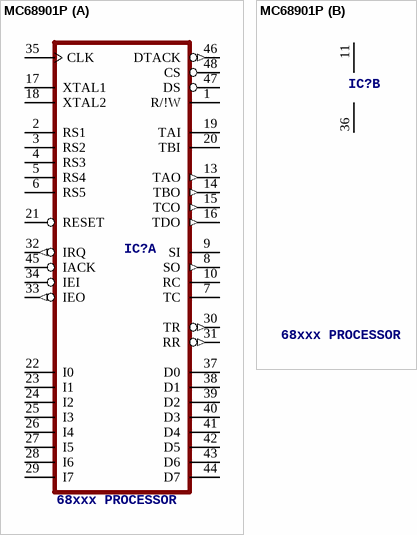
[diagram p4: symbol MC68901P]

## MC68901P
designator IC?, comment 68xxx PROCESSOR
OC_FARNELL: unknown; OC_NEWARK: unknown
footprint DIL48
part A pins: 1 R/!W, 2 RS1, 3 RS2, 4 RS3, 5 RS4, 6 RS5, 7 TC, 8 SO (out), 9 SI, 10 RC, 13 TAO (out), 14 TBO (out), 15 TCO (out), 16 TDO (out), 17 XTAL1, 18 XTAL2, 19 TAI, 20 TBI, 21 RESET, 22 I0, 23 I1, 24 I2, 25 I3, 26 I4, 27 I5, 28 I6, 29 I7, 30 TR (out), 31 RR (out), 32 IRQ (out), 33 IEO (out), 34 IEI, 35 CLK, 37 D0, 38 D1, 39 D2, 40 D3, 41 D4, 42 D5, 43 D6, 44 D7, 45 IACK, 46 DTACK (out), 47 DS, 48 CS
part B pins: 11 VCC (power), 36 GND (power)